# Altium footprint library PCB_PassiveCap.PcbLib: 13 footprints
Each footprint in its own frame and in the unit in brackets; x right, y up, seen from the top. Pads: shape width x height; smd on the part's side, far side on the other; paste and mask are expansions set on the pad; w line width, h text height; cw(c..) or ccw(c..) is an arc to the next point about the centre after c.
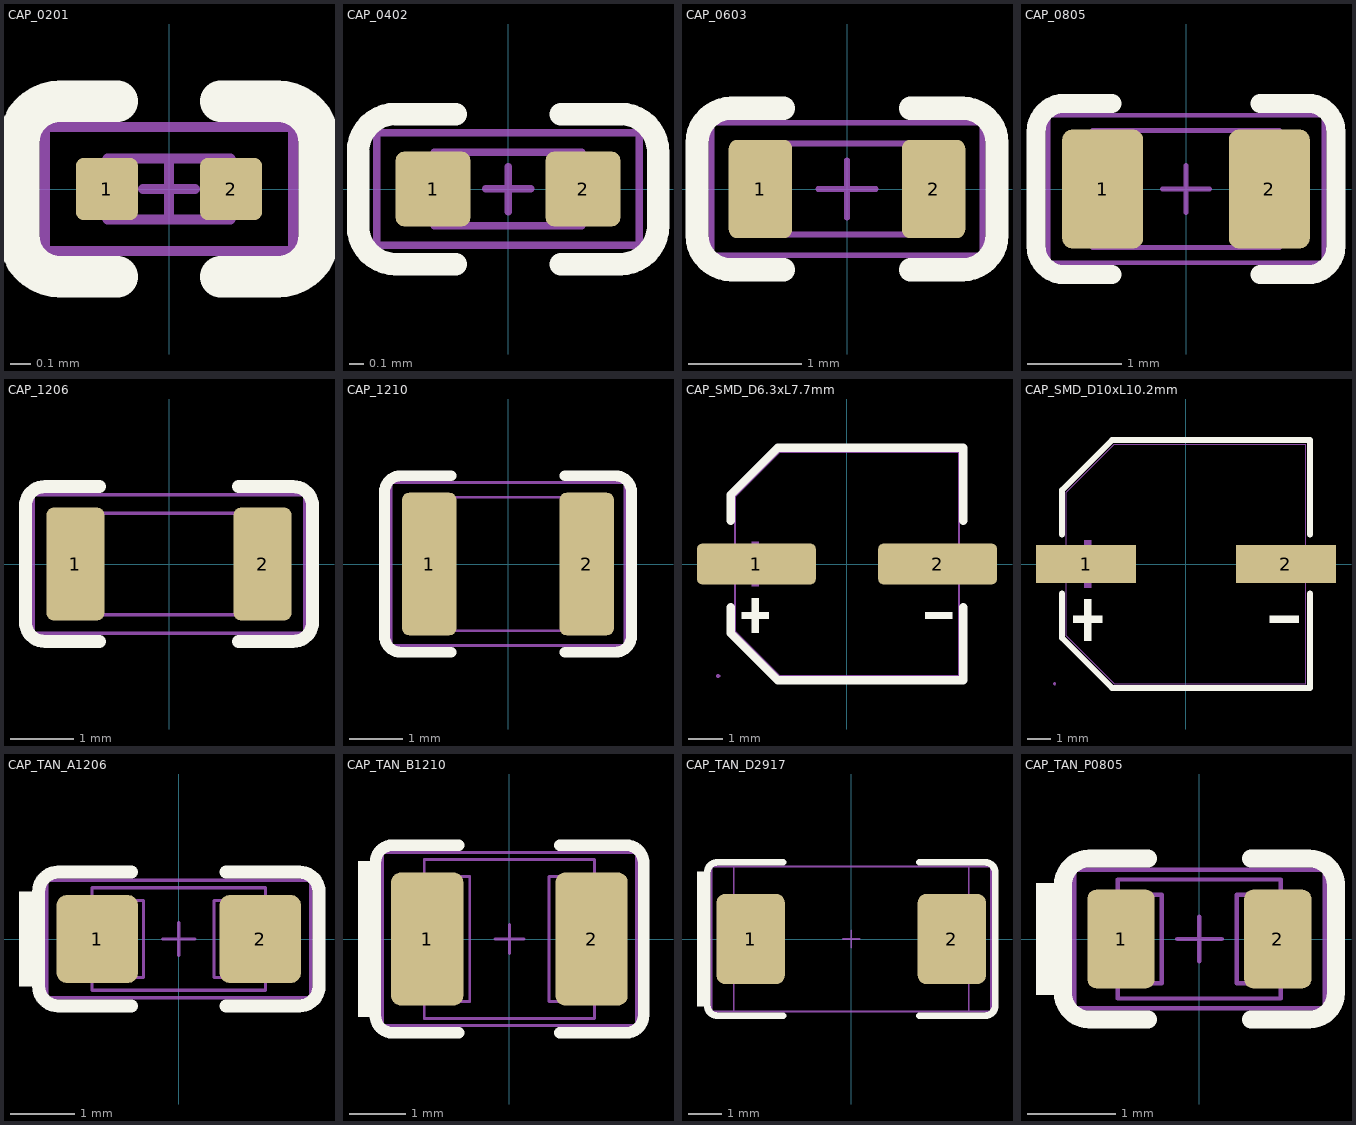
[diagram p0: the footprints below, top view; thin cyan lines are the x and y axes]

## CAP_0201 [mil]
height 15.75
pads (2):
  rrect25% 12x12 smd mask+2: 1(-12,0) 2(12,0)
Top Overlay:
  lines w8: -10,-17 -21,-17 cw(c-21,-9) -29,-9 -29,9 cw(c-21,9) -21,17 -10,17 ; 10,-17 21,-17 ccw(c21,-9) 29,-9 29,9 ccw(c21,9) 21,17 10,17
Mechanical 13:
  lines w2: -5,0 5,0 ; 0,-5 0,5 ; -11.81,-5.91 -11.81,5.91 11.81,5.91 11.81,-5.91 -11.81,-5.91
T-Component:
  lines w2: -24,-12 -24,12 24,12 24,-12 -24,-12
3D body "C0201.stp": height 12.6, standoff 0.79, extent -11.81,-5.91 11.81,5.91

## CAP_0402 [mil]
height 21.65
pads (2):
  rrect25% 20x20 smd mask+2: 1(-20,0) 2(20,0)
Top Overlay:
  lines w6: -14,-20 -30,-20 cw(c-30,-10) -40,-10 -40,10 cw(c-30,10) -30,20 -14,20 ; 14,-20 30,-20 ccw(c30,-10) 40,-10 40,10 ccw(c30,10) 30,20 14,20
Mechanical 13:
  lines w2: -6,0 6,0 ; 0,-6 0,6 ; -19.69,-9.84 19.68,-9.84 19.68,9.84 -19.69,9.84 -19.69,-9.84
T-Component:
  lines w2: -35,-15 -35,15 35,15 35,-15 -35,-15
3D body "C0402.stp": height 20.47, standoff 0.79, extent -19.68,-9.84 19.68,9.84

## CAP_0603 [mil]
height 31.5
pads (2):
  rrect25% 22x34 smd mask+2: 1(-30,0) 2(30,0)
Top Overlay:
  lines w8: -22,-28 -40,-28 cw(c-40,-16) -52,-16 -52,16 cw(c-40,16) -40,28 -22,28 ; 22,-28 40,-28 ccw(c40,-16) 52,-16 52,16 ccw(c40,16) 40,28 22,28
Mechanical 13:
  lines w2: -10,0 10,0 ; 0,-10 0,10 ; -31.5,-15.75 31.5,-15.75 31.5,15.75 -31.5,15.75 -31.5,-15.75
T-Component:
  lines w2: -47,-23 47,-23 47,23 -47,23 -47,-23
3D body "C0603.stp": height 32.28, standoff 0.79, extent -31.5,-15.75 31.5,15.75

## CAP_0805 [mil]
height 47.24
pads (2):
  rrect25% 34x50 smd mask+2: 1(-35,0) 2(35,0)
Top Overlay:
  lines w8: -31,-36 -51,-36 cw(c-51,-24) -63,-24 -63,24 cw(c-51,24) -51,36 -31,36 ; 31,-36 51,-36 ccw(c51,-24) 63,-24 63,24 ccw(c51,24) 51,36 31,36
Mechanical 13:
  lines w2: -10,0 10,0 ; 0,-10 0,10 ; -39.37,-24.61 39.37,-24.61 39.37,24.61 -39.37,24.61 -39.37,-24.61
T-Component:
  lines w2: -58,-31 58,-31 58,31 -58,31 -58,-31
3D body "C0805.stp": height 50, standoff 0.79, extent -39.37,-24.61 39.37,24.61

## CAP_1206 [mil]
pads (2):
  rrect25% 36x70 smd: 1(-58,0) 2(58,0)
Top Overlay:
  lines w8: -43,-48 -77,-48 cw(c-77,-36) -89,-36 -89,36 cw(c-77,36) -77,48 -43,48 ; 43,-48 77,-48 ccw(c77,-36) 89,-36 89,36 ccw(c77,36) 77,48 43,48
Mechanical 13:
  lines w1.97: -62.99,-31.5 62.99,-31.5 62.99,31.5 -62.99,31.5 -62.99,-31.5
T-Component:
  lines w2: -84,-43 84,-43 84,43 -84,43 -84,-43
3D body "C1206.stp": height 63.78, standoff 0.79, extent -62.99,-31.5 62.99,31.5

## CAP_1210 [mil]
pads (2):
  rrect25% 40x105 smd: 1(-58,0) 2(58,0)
Top Overlay:
  lines w8: -42,-65 -79,-65 cw(c-79,-53) -91,-53 -91,53 cw(c-79,53) -79,65 -42,65 ; 42,-65 79,-65 ccw(c79,-53) 91,-53 91,53 ccw(c79,53) 79,65 42,65
Mechanical 13:
  lines w1.97: -62.99,-49.21 62.99,-49.21 62.99,49.21 -62.99,49.21 -62.99,-49.21
T-Component:
  lines w2: -86,-60 -86,60 86,60 86,-60 -86,-60
3D body "C1210.stp": height 79.53, standoff 0.79, extent -62.99,-49.21 62.99,49.21

## CAP_SMD_D6.3xL7.7mm [mm]
pads (2):
  rrect25% 3.5x1.2 smd: 1(-2.67,0) 2(2.67,0)
Top Overlay:
  region: -2.805,-1.016 -2.805,-2.032 -2.607,-2.032 -2.607,-1.016
  region: -3.102,-1.419 -3.102,-1.617 -2.31,-1.617 -2.31,-1.419
  region: 3.102,-1.419 3.102,-1.617 2.31,-1.617 2.31,-1.419
  lines w0.254: -3.429,-1.27 -3.429,-2.032 -2.032,-3.429 3.429,-3.429 3.429,-1.27 ; -3.429,1.27 -3.429,2.032 -2.032,3.429 3.429,3.429 3.429,1.27
Mechanical 6:
  region: -2.805,0.66 -2.805,-0.66 -2.607,-0.66 -2.607,0.66
  region: -3.102,0.099 -3.102,-0.099 -2.31,-0.099 -2.31,0.099
  region: 3.102,0.099 3.102,-0.099 2.31,-0.099 2.31,0.099
B-Component:
  region: 1.4,0.325 3.8,0.325 3.8,-0.325 1.4,-0.325
  region: -3.8,0.325 -1.4,0.325 -1.4,-0.325 -3.8,-0.325
  region: -3.74,-3.3 -3.741,-3.276 -3.776,-3.242 -3.824,-3.242 -3.859,-3.276 -3.86,-3.3 -3.859,-3.324 -3.824,-3.358 -3.776,-3.358 -3.741,-3.324
  lines w0.051: -3.3,-1.98 -3.3,1.98 -1.98,3.3 3.3,3.3 3.3,-3.3 -1.98,-3.3 -3.3,-1.98
3D body "3D_PCB1_2024-03-28.step": height 7.7, standoff 0, extent -3.5,-3.3 3.5,3.3

## CAP_SMD_D10xL10.2mm [mm] "SMD Cap"
pads (2):
  rect 4.3x1.65 smd: 1(-4.3,0) 2(4.3,0)
Top Overlay:
  region: -4.378,-1.524 -4.378,-3.302 -4.069,-3.302 -4.069,-1.524
  region: -4.841,-2.215 -4.841,-2.524 -3.605,-2.524 -3.605,-2.215
  region: 4.841,-2.215 4.841,-2.524 3.605,-2.524 3.605,-2.215
  lines w0.254: -5.334,-1.27 -5.334,-3.175 -3.175,-5.334 5.334,-5.334 5.334,-1.27 ; -5.334,1.27 -5.334,3.175 -3.175,5.334 5.334,5.334 5.334,1.27
Mechanical 6:
  region: -4.378,1.03 -4.378,-1.03 -4.069,-1.03 -4.069,1.03
  region: -4.841,0.154 -4.841,-0.155 -3.605,-0.155 -3.605,0.154
  region: 4.841,0.154 4.841,-0.155 3.605,-0.155 3.605,0.154
B-Component:
  region: 2.45,0.475 5.65,0.475 5.65,-0.475 2.45,-0.475
  region: -5.65,0.475 -2.45,0.475 -2.45,-0.475 -5.65,-0.475
  region: -5.59,-5.15 -5.59,-5.125 -5.625,-5.09 -5.675,-5.09 -5.71,-5.125 -5.71,-5.15 -5.71,-5.175 -5.675,-5.21 -5.625,-5.21 -5.59,-5.175
  lines w0.051: -5.15,-3.09 -5.15,3.09 -3.09,5.15 5.15,5.15 5.15,-5.15 -3.09,-5.15 -5.15,-3.09
3D body "3D_PCB1_2024-03-28.step": height 10.58, standoff 0.08, extent -5.75,-5.15 5.55,5.151

## CAP_TAN_A1206 [mil]
height 70.87
pads (2):
  rrect25% 50x54 smd mask+2: 1(-50,0) 2(50,0)
Top Overlay:
  rectangle: -98,-29 -86,29
  lines w8: -29,-41 -74,-41 cw(c-74,-29) -86,-29 -86,29 cw(c-74,29) -74,41 -29,41 ; 29,-41 74,-41 ccw(c74,-29) 86,-29 86,29 ccw(c74,29) 74,41 29,41
Mechanical 13:
  lines w2: -10,0 10,0 ; 0,-10 0,10 ; -63,-23.63 -21.66,-23.63 -21.66,23.62 -63,23.62 -63,-23.63 ; -53.16,-31.5 -53.16,31.5 53.15,31.5 53.15,-31.5 -53.16,-31.5 ; 21.65,-23.62 62.99,-23.62 62.99,23.62 21.65,23.62 21.65,-23.62
T-Component:
  lines w2: -81,-36 -81,36 81,36 81,-36 -81,-36
3D body "CAPMP3216X180N.STEP": height 70.87, standoff 0, extent -62.99,-31.49 63,31.5

## CAP_TAN_B1210 [mil]
height 82.68
pads (2):
  rrect25% 50x92 smd mask+2: 1(-57,0) 2(57,0)
Top Overlay:
  rectangle: -105,-54 -93,54
  lines w8: -93,-54 -93,53 cw(c-81,53) -81,65 -35,65 ; -93,-53 ccw(c-81,-53) -81,-65 -35,-65 ; 35,-65 81,-65 ccw(c81,-53) 93,-53 93,54 ; 35,65 81,65 cw(c81,53) 93,53
Mechanical 13:
  lines w2: -10,0 10,0 ; 0,-10 0,10 ; -68.89,-43.3 -68.89,43.31 -27.55,43.31 -27.55,-43.3 -68.89,-43.3 ; -59.06,-55.11 59.05,-55.11 59.05,55.12 -59.06,55.12 -59.06,-55.11 ; 27.56,-43.31 68.9,-43.31 68.9,43.31 27.56,43.31 27.56,-43.31
T-Component:
  lines w2: -88,-60 -88,60 88,60 88,-60 -88,-60
3D body "CAPMP3528X210N.STEP": height 82.68, standoff 0, extent -68.89,-55.11 68.91,55.13

## CAP_TAN_D2917 [mil]
height 122.05
pads (2):
  rrect25% 80x106 smd mask+2: 1(-118,0) 2(118,0)
Top Overlay:
  rectangle: -181,-79 -169,79
  lines w8: -169,-79 -169,78 cw(c-157,78) -157,90 -80,90 ; -169,-78 ccw(c-157,-78) -157,-90 -80,-90 ; 80,-90 157,-90 ccw(c157,-78) 169,-78 169,79 ; 80,90 157,90 cw(c157,78) 169,78
Mechanical 13:
  lines w2: -10,0 10,0 ; 0,-10 0,10 ; -143.7,-47.24 -143.7,47.24 -86.61,47.24 -86.61,-47.24 -143.7,-47.24 ; -137.8,-84.65 137.8,-84.65 137.8,84.65 -137.8,84.65 -137.8,-84.65 ; 86.61,-47.24 143.7,-47.24 143.7,47.24 86.61,47.24 86.61,-47.24
T-Component:
  lines w2: -164,-85 164,-85 164,85 -164,85 -164,-85
3D body "CAPMP7343X310N.STEP": height 122.05, standoff 0, extent -149.6,-77.75 149.61,77.76

## CAP_TAN_P0805 [mil]
height 59.06
pads (2):
  rrect25% 30x44 smd mask+2: 1(-35,0) 2(35,0)
Top Overlay:
  rectangle: -73,-25 -61,25
  lines w8: -61,-25 -61,24 cw(c-49,24) -49,36 -23,36 ; -61,-24 ccw(c-49,-24) -49,-36 -23,-36 ; 23,-36 49,-36 ccw(c49,-24) 61,-24 61,25 ; 23,36 49,36 cw(c49,24) 61,24
Mechanical 13:
  lines w2: -10,0 10,0 ; 0,-10 0,10 ; -40.35,-19.68 -40.35,19.68 -16.73,19.68 -16.73,-19.68 -40.35,-19.68 ; -36.42,-26.57 36.42,-26.57 36.42,26.57 -36.42,26.57 -36.42,-26.57 ; 16.73,-19.68 16.73,19.68 40.35,19.68 40.35,-19.68 16.73,-19.68
T-Component:
  lines w2: -56,-31 -56,31 56,31 56,-31 -56,-31
3D body "CAPMP2012X150N.STEP": height 59.06, standoff 0, extent -40.35,-26.57 40.36,26.58

## Z_CAP3D [mil]
T-Component:
  text "0201" at -72,7.21 h20
  text "0402" at -2.73,30.05 h20
  text "0603" at -78,-26.79 h20
  text "0805" at 134.27,36.05 h20
  text "1206" at 180.27,-28.95 h20
  text "1210" at -14.73,-61.95 h20
  text "1812" at 180.27,-203.95 h20
  text "01005" at -63,40.21 h20
3D body "C1812.stp": height 103.15, standoff 0.79, extent 45.42,-188.99 222.58,-63.01
3D body "C1210.stp": height 79.53, standoff 0.79, extent -86.99,-164.21 38.99,-65.79
3D body "C1206.stp": height 31.5, standoff -31.5, extent 46.01,-60.21 171.99,2.78
3D body "C01005.stp": height 3.94, standoff -3.94, extent -31.87,28.79 -16.13,36.66
3D body "C0805.stp": height 24.61, standoff -24.61, extent 53.63,7.79 132.37,57
3D body "C0603.stp": height 15.75, standoff -15.75, extent -32.5,-27.21 30.5,4.28
3D body "C0402.stp": height 9.84, standoff -9.84, extent -2.69,7.79 36.69,27.47
3D body "C0201.stp": height 5.91, standoff -5.91, extent -31.81,8 -8.19,19.81